# Altium schematic symbol library MAX810TEUR+T.Schlib: 1 symbol
Pins are listed as number, name and electrical type; pins without a type are passive.

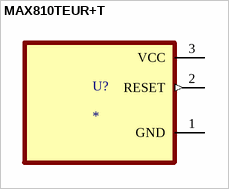
[diagram p0: symbol MAX810TEUR+T]

## MAX810TEUR+T
designator U?
3-Pin Microprocessor Reset Circuits
pins: 1 GND (power), 2 RESET (out), 3 VCC (power)